# EAGLE library part INA-A (library CalvEngIO-AnalogIC)
Generic symbol and footprint for single supply instrumentation amplifier Fits AD8220, AD8226, AD8227, and others Source: http://www.analog.com/media/en/technical-documentation/data-sheets/AD8227.pdf
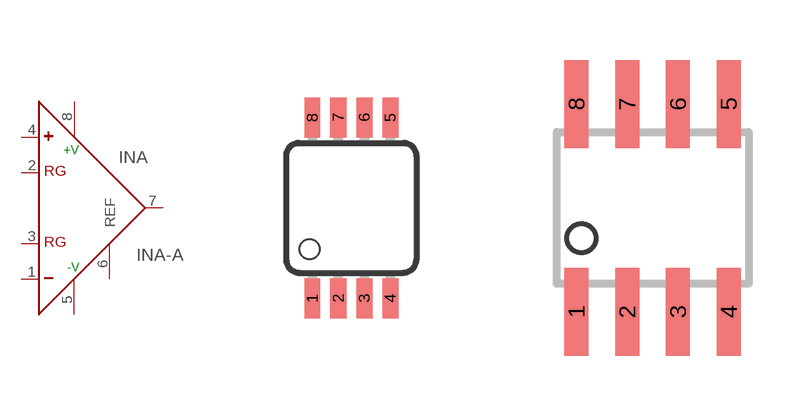
[diagram p2: symbol with the pads of MSOP08; footprints MSOP08, SO8]

Designator prefix INA

## INA-A  [MSOP08]
1  IN-  in
2  RG  pas
3  RG  pas
4  IN+  in
5  -V  pwr
6  REF  pas
7  OUT  out
8  +V  pwr

## INA-ASO8  [SO8]
Pads as for MSOP08

## Footprint MSOP08 (pad centres in mm)
8-Lead micro SO (RM-8) Source: http://www.analog.com/UploadedFiles/Data_Sheets/703465986AD8611_2_0.pdf
smd 0.4 x 1: 1 -0.976,-2.263; 2 -0.326,-2.263; 3 0.324,-2.263; 4 0.974,-2.263; 5 0.974,2.262; 6 0.324,2.262; 7 -0.326,2.262; 8 -0.976,2.262

## Footprint SO8 (pad centres in mm)
8-Lead Small Outline IC (SO-8) Source: http://www.analog.com/UploadedFiles/Data_Sheets/703465986AD8611_2_0.pdf
smd 0.6 x 2.2: 1 -1.905,-2.6; 2 -0.635,-2.6; 3 0.635,-2.6; 4 1.905,-2.6; 5 1.905,2.6; 6 0.635,2.6; 7 -0.635,2.6; 8 -1.905,2.6